# Altium schematic symbol library IFSC.SchLib: 11 symbols
Pins are listed as number, name and electrical type; pins without a type are passive.

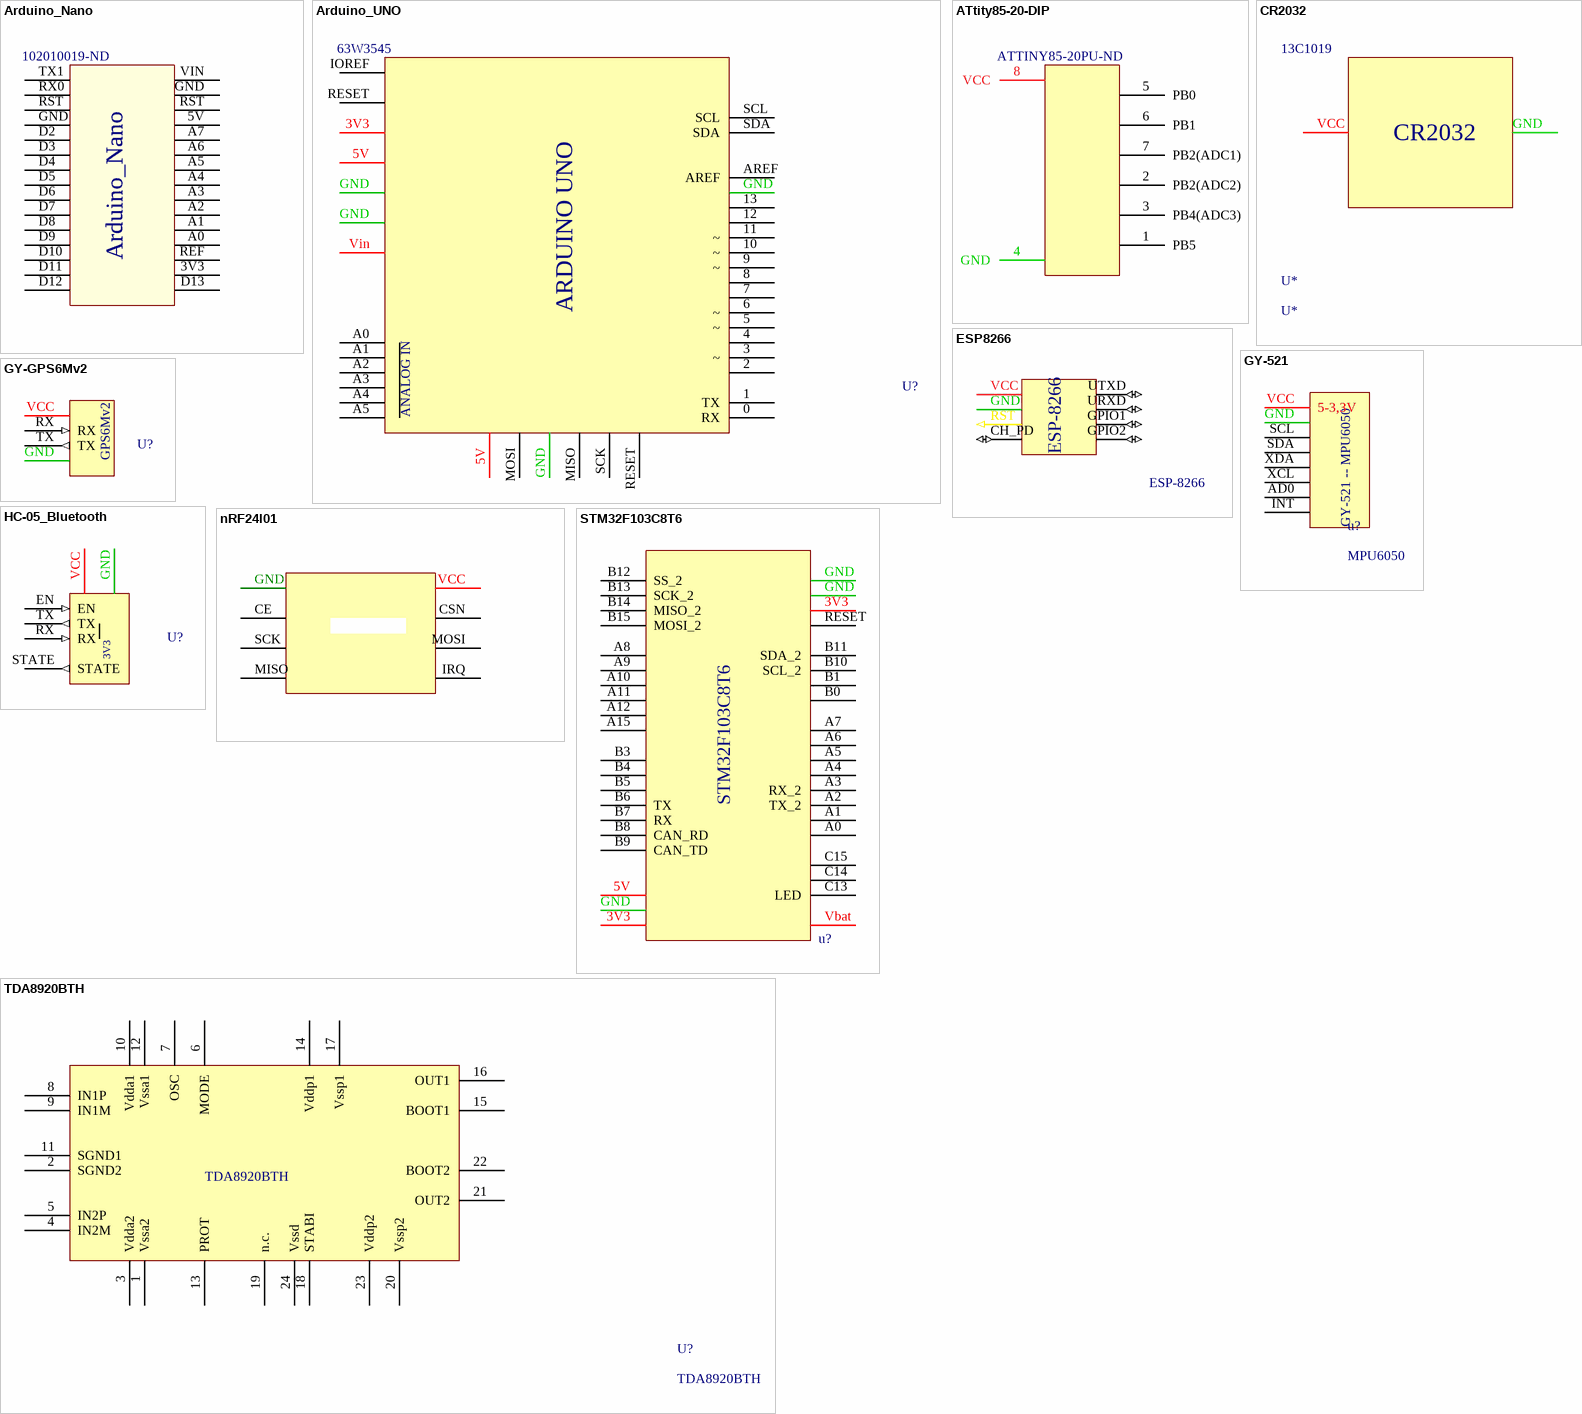
[diagram p0: symbols Arduino_Nano to TDA8920BTH]

## Arduino_Nano
designator U*, comment U*  Supplier Part Number 1: 102010019-ND
Supplier 1: Digi-Key
footprint Arduino_Nano
pins: 3V3  , 5V  , A0, A1, A2, A3, A4, A5, A6  , A7  , D2 12, D3 13, D4  , D5 15, D6 16, D7 17, D8 18, D9 19, D10 20, D11 TX2, D12 TX3, D13  , GND 11, GND TX3, REF  , RST 10, RST  , RX0 9, TX1 8, VIN TX2

## Arduino_UNO
designator U?, comment Supplier Part Number 1: 63W3545  (hidden comment: Arduino UNO)
Supplier 1: Newark
footprint Arduino_UNO
pins: 0 RX, 1 TX, 2 29, 3 ~, 3V3 29, 4 29, 5 ~, 5V 29, 5V 29, 6 ~, 7 29, 8 29, 9 ~, 10 ~, 11 ~, 12, 13, A0 29, A1 29, A2 29, A3 29, A4 29, A5 29, AREF, GND 29, GND 29, GND 29, GND 29, IOREF 29, MISO Vin, MOSI Vin, RESET 29, RESET 29, SCK 29, SCL, SDA, Vin 29
text: ARDUINO UNO; ANALOG IN

## ATtity85-20-DIP
designator U*, comment U*  Supplier Part Number 1: ATTINY85-20PU-ND
Supplier 1: Digi-Key
footprint DIP-8 (Footprint not found)
footprint DIP-8 (Footprint not found)
footprint SOIC08-150(50) (Footprint not found)
pins: 1 PB5, 2 PB2(ADC2), 3 PB4(ADC3), 4 GND, 5 PB0, 6 PB1, 7 PB2(ADC1), 8 VCC (power)

## CR2032
designator U*, comment U*  Supplier Part Number 1: 13C1019
Supplier 1: Newark
footprint CR2032 (BATT)
pins: GND, VCC (power)

## ESP8266
designator ESP-8266, comment U*  (value not drawn)
Supplier 1: Farnell; Supplier 2: Digi-Key; Supplier Part Number 1: 2801859; Supplier Part Number 2: 1568-1235-ND
footprint ESP-8266
pins: CH_PD 3 (io), GND 1 (power), GPIO1 6 (io), GPIO2 7 (io), RST 2 (in), URXD 5 (io), UTXD 4 (io), VCC (power)

## GY-521
designator u?, comment MPU6050
Supplier 1: Digi-Key; Supplier Part Number 1: 1428-1007-1-ND
footprint GY-521
pins: AD0, GND, INT, SCL, SDA, VCC 5-3,3V, XCL, XDA
text: GY-521 -- MPU6050

## GY-GPS6Mv2
designator U?, comment GPS6M  (value not drawn)
footprint GY-GPS6mv2
pins: GND Vin, RX (in), TX (out), VCC Vin
text: GPS6Mv2

## HC-05_Bluetooth
designator U?  (value not drawn)
footprint HC-05_Bluetooth
pins: EN (in), GND Vin, RX (in), STATE (out), TX (out), VCC Vin
text: 3V3

## nRF24l01
designator U*, comment U*  Supplier Part Number 1: 1490-1033-6-ND
Supplier 1: Digi-Key
footprint nRF24l01
pins: CE, CSN, GND (power), IRQ, MISO, MOSI, SCK, VCC (power)

## STM32F103C8T6
designator u?  (value not drawn)
Supplier 1: Newark; Supplier Part Number 1: 59M2182
footprint STM32F103C8T6
pins: 3V3 Vin, 3V3 Vin, 5V Vin, A0, A1, A2 TX_2, A3 RX_2, A4, A5, A6, A7, A8, A9, A10, A11, A12, A15, B0, B1, B3, B4, B5, B6 TX, B7 RX, B8 CAN_RD, B9 CAN_TD, B10 SCL_2, B11 SDA_2, B12 SS_2, B13 SCK_2, B14 MISO_2, B15 MOSI_2, C13 LED, C14, C15, GND 5V, GND 5V, GND 5V, RESET  , Vbat

## TDA8920BTH
designator U?
Supplier 1: Digi-Key; Supplier Part Number 1: 568-2060-2-ND
footprint PCB_TDA8920B
pins: 1 Vssa2, 2 SGND2, 3 Vdda2, 4 IN2M, 5 IN2P, 6 MODE, 7 OSC, 8 IN1P, 9 IN1M, 10 Vdda1, 11 SGND1, 12 Vssa1, 13 PROT, 14 Vddp1, 15 BOOT1, 16 OUT1, 17 Vssp1, 18 STABI, 19 n.c., 20 Vssp2, 21 OUT2, 22 BOOT2, 23 Vddp2, 24 Vssd